# Altium footprint library Pcb_Connectors.PcbLib: 17 footprints (part 1 of 2)
Each footprint in its own frame and in the unit in brackets; x right, y up, seen from the top. Pads: shape width x height; smd on the part's side, far side on the other; paste and mask are expansions set on the pad; w line width, h text height; cw(c..) or ccw(c..) is an arc to the next point about the centre after c.
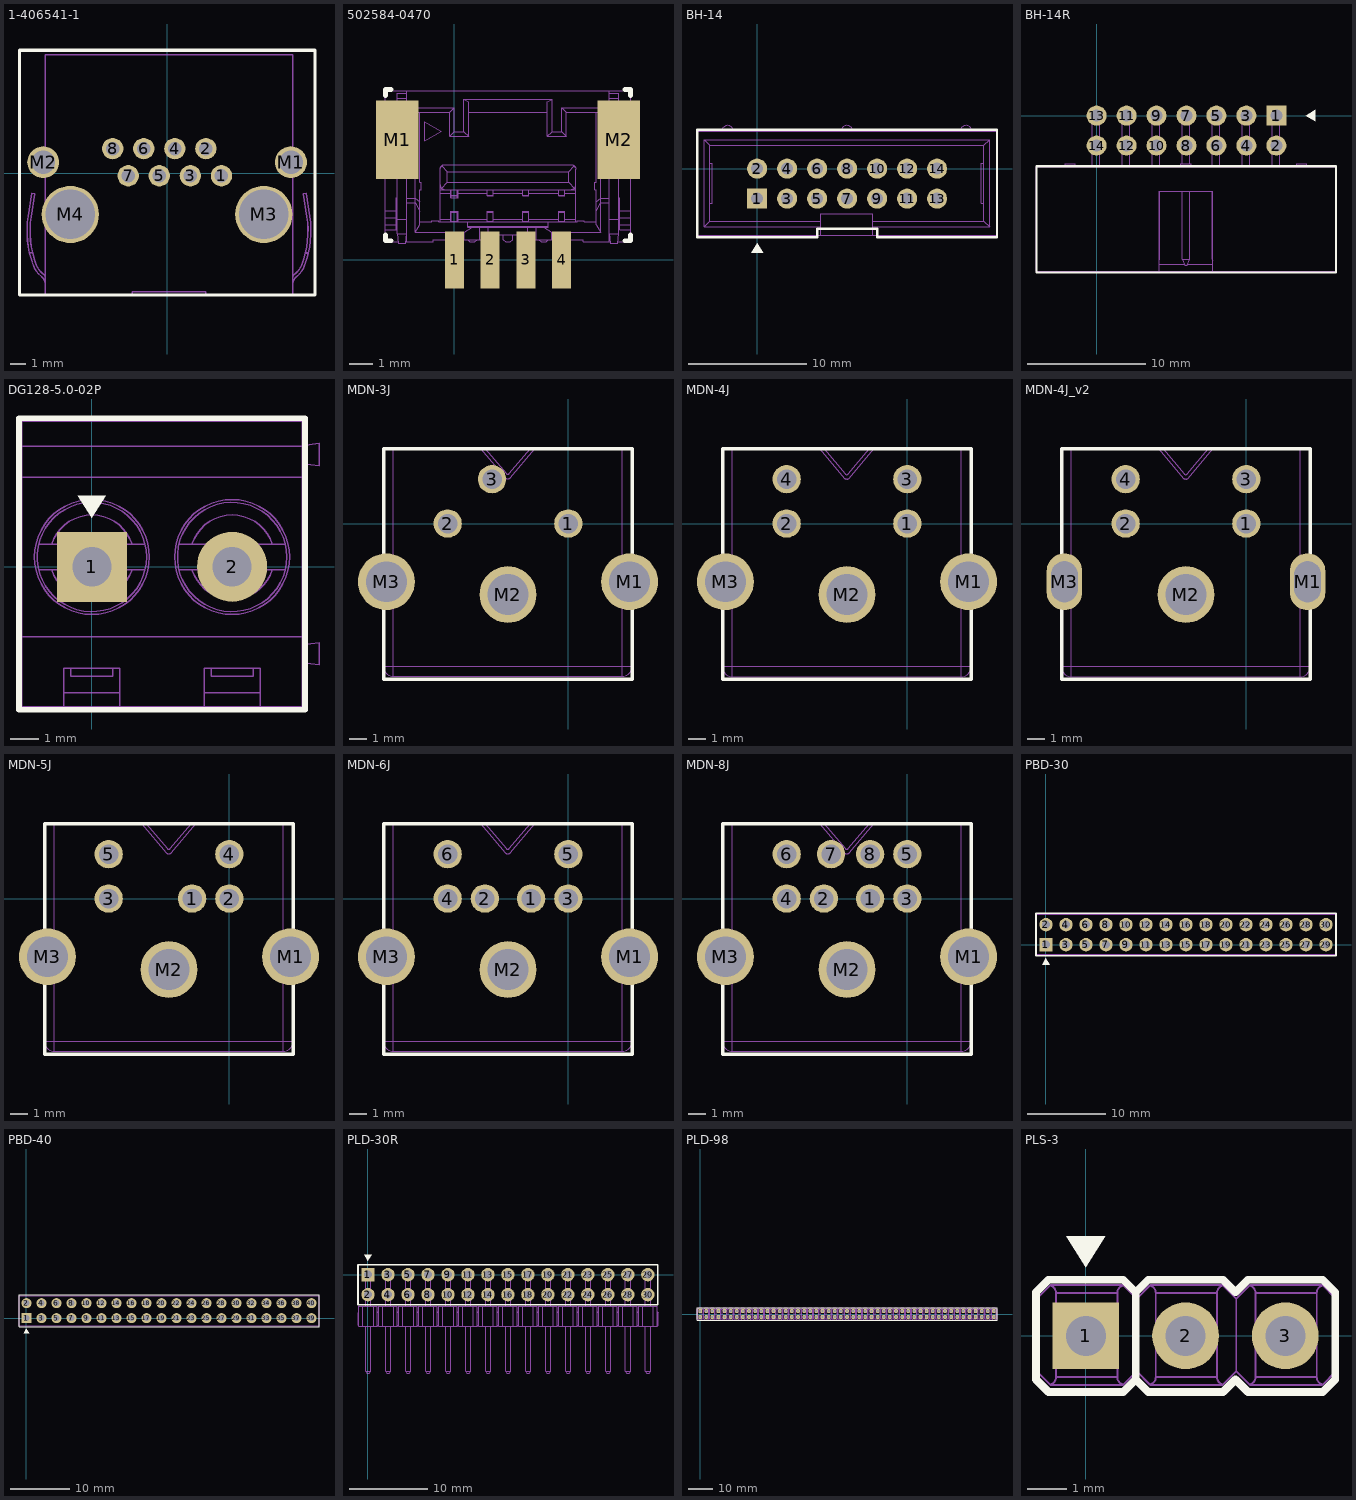
[diagram p0: the footprints below, top view; thin cyan lines are the x and y axes]

## 1-406541-1 [mm] "TE Connectivity Ethernet connector"
height 15.04
pads (12):
  round 1.4 hole 0.89: 1(3.56,-0.18) 2(2.54,1.6) 3(1.52,-0.18) 4(0.5,1.6) 5(-0.52,-0.18) 6(-1.54,1.6) 7(-2.56,-0.18) 8(-3.58,1.6)
  round 2.1 hole 1.57: M1(8.12,0.71) M2(-8.14,0.71)
  round 3.759 hole 3.251: M3(6.34,-2.72) M4(-6.36,-2.72)
Top Overlay:
  lines w0.2: -9.695,8.03 -9.695,-8 9.695,-8 9.695,8.06 -9.695,8.06
Top Assy (Mech13):
  lines w0.1: -8.011,-8 -2.296,-8 ; -8.011,-7.989 -8.011,7.759 8.245,7.759 8.245,-8 2.53,-8 ; -8.011,-7.354 ccw(c-8.773,-7.354) -8.296,-6.759 cw(c-7.327,-5.549) -8.772,-6.112 cw(c-2.855,-3.807) -9.044,-5.225 ; -8.011,-6.773 ccw(c-8.773,-7.354) -8.174,-6.606 cw(c-7.327,-5.549) -8.589,-6.041 cw(c-2.855,-3.807) -8.844,-5.225 ; 8.245,-7.354 cw(c9.007,-7.354) 8.53,-6.759 ccw(c7.561,-5.549) 9.006,-6.112 ccw(c3.089,-3.807) 9.273,-5.251 ; 8.245,-6.774 cw(c9.007,-7.354) 8.408,-6.607 ccw(c7.561,-5.549) 8.823,-6.041 ccw(c3.089,-3.807) 9.071,-5.251 ; -9.044,-5.225 cw(c-2.855,-3.807) -9.132,-2.845 -8.9,-1.334 -8.707,-1.364 -8.938,-2.875 ccw(c-2.855,-3.807) -8.844,-5.225 ; -9.044,-5.225 -8.844,-5.225 ; -2.296,-8 2.53,-8 ; -2.296,-8 -2.296,-7.793 2.53,-7.793 2.53,-8 ; 9.071,-5.251 ccw(c3.089,-3.807) 9.172,-2.875 8.941,-1.364 9.134,-1.334 9.366,-2.845 cw(c3.089,-3.807) 9.273,-5.251 ; 9.071,-5.251 9.273,-5.251
  text ".Designator" at -3.4,-3.3 h2
3D body "TEC_1-406541-1.stp": height 14.8, standoff -3.92, extent -9.33,-7.998 9.31,7.75

## 502584-0470 [mm]
pads (6):
  rect 0.8x2.4 smd: 1(0,0) 2(1.5,0) 3(3,0) 4(4.5,0)
  rect 1.8x3.3 smd: M1(-2.4,5.05) M2(6.9,5.05)
Top Overlay:
  lines w0.2: -2.9,1.05 -2.9,0.8 -2.65,0.8 ; -2.9,6.9 -2.9,7.15 -2.65,7.15 ; 7.15,0.8 7.4,0.8 7.4,1.05 ; 7.15,7.15 7.4,7.15 7.4,6.9
Top Assy (Mech13):
  drawing of 3816 lines, arcs and shapes, not listed
  text ".Designator" at -2.133,4.2 h1
3D body "5025840470.stp": height 7.33, standoff 0.03, extent -2.9,-0.3 7.4,7.1

## BH-14 [mm]
pads (14):
  rect 1.7x1.7 hole 1.02: 1(0,-2.54)
  round 1.7 hole 1.02: 2(0,0) 3(2.54,-2.54) 4(2.54,0) 5(5.08,-2.54) 6(5.08,0) 7(7.62,-2.54) 8(7.62,0) 9(10.16,-2.54) 10(10.16,0) 11(12.7,-2.54) 12(12.7,0) 13(15.24,-2.54) 14(15.24,0)
Top Overlay:
  region: 0,-6.318 -0.496,-7.112 0.496,-7.112
  lines w0.2: -5.08,-5.82 -5.08,3.28 20.32,3.28 20.32,-5.82 10.16,-5.82 10.16,-5.08 5.08,-5.08 5.08,-5.82 -5.08,-5.82
Top Assy (Mech13):
  drawing of 207 lines, arcs and shapes, not listed
  text ".Designator" at 0.933,-7.8 h2
3D body "BH-14.STEP": height 9.25, standoff -3.45, extent -5.095,-5.69 20.305,3.66

## BH-14R [mm]
pads (14):
  rect 1.7x1.7 hole 1.02: 1(15.24,0)
  round 1.7 hole 1.02: 2(15.24,-2.54) 3(12.7,0) 4(12.7,-2.54) 5(10.16,0) 6(10.16,-2.54) 7(7.62,0) 8(7.62,-2.54) 9(5.08,0) 10(5.08,-2.54) 11(2.54,0) 12(2.54,-2.54) 13(0,0) 14(0,-2.54)
Top Overlay:
  region: 17.748,0 18.542,-0.496 18.542,0.496
  lines w0.2: -5.1,-13.3 20.3,-13.3 20.3,-4.3 -5.1,-4.3 -5.1,-13.3
Top Assy (Mech13):
  lines w0.05: -2.675,-4.35 -2.675,-4.1 -1.825,-4.1 -1.825,-4.35 ; -0.36,-4.35 -0.36,-0.65 ; 0.28,-4.35 0.28,-0.65 ; 2.18,-4.35 2.18,-0.65 ; 2.82,-4.35 2.82,-0.65 ; 4.72,-4.35 4.72,-0.65 ; 5.33,-12.6 7.424,-12.6 ; 5.33,-12.265 5.36,-12.19 ; 5.33,-12.19 5.36,-12.19 ; 5.36,-6.4 5.36,-12.19 ; 5.36,-4.35 5.36,-0.65 ; 7.155,-4.35 7.155,-4.1 8.005,-4.1 8.005,-4.35 ; 7.26,-6.4 7.26,-12.19 ; 7.26,-4.1 7.26,-0.65 ; 7.736,-12.6 9.83,-12.6 ; 7.9,-6.4 7.9,-12.19 ; 7.9,-4.1 7.9,-0.65 ; 9.8,-6.4 9.8,-12.19 ; 9.8,-4.35 9.8,-0.65 ; 9.83,-12.265 9.8,-12.19 ; 9.83,-12.19 9.8,-12.19 ; 10.44,-4.35 10.44,-0.65 ; 12.34,-4.35 12.34,-0.65 ; 12.98,-4.35 12.98,-0.65 ; 14.88,-4.35 14.88,-0.65 ; 15.52,-4.35 15.52,-0.65 ; 16.985,-4.35 16.985,-4.1 17.835,-4.1 17.835,-4.35 ; -0.36,-0.65 0.28,-0.65 ; -0.36,-0.65 -0.36,0.35 0.28,0.35 0.28,-0.65 ; 2.18,-0.65 2.82,-0.65 ; 2.18,-0.65 2.18,0.35 2.82,0.35 2.82,-0.65 ; 4.72,-0.65 5.36,-0.65 ; 4.72,-0.65 4.72,0.35 5.36,0.35 5.36,-0.65 ; 5.33,-13.2 -5.14,-13.2 -5.14,-4.35 20.3,-4.35 20.3,-13.2 9.83,-13.2 ; 5.33,-13.2 5.33,-6.4 9.83,-6.4 9.83,-13.2 ; 5.33,-13.2 9.83,-13.2 ; 7.26,-12.19 7.46,-12.69 7.7,-12.69 7.9,-12.19 ; 7.26,-12.19 7.9,-12.19 ; 7.26,-0.65 7.9,-0.65 ; 7.26,-0.65 7.26,0.35 7.9,0.35 7.9,-0.65 ; 9.8,-0.65 10.44,-0.65 ; 9.8,-0.65 9.8,0.35 10.44,0.35 10.44,-0.65 ; 12.34,-0.65 12.98,-0.65 ; 12.34,-0.65 12.34,0.35 12.98,0.35 12.98,-0.65 ; 14.88,-0.65 15.52,-0.65 ; 14.88,-0.65 14.88,0.35 15.52,0.35 15.52,-0.65
  text ".Designator" at 12.133,-10.1 h2
3D body "BH-14R.stp": height 9.23, standoff -2.6, extent -5.145,-13.205 20.295,0.345

## DG128-5.0-02P [mm] "PCB terminal blocks, Screw connection with tension sleeve"
height 14
pads (2):
  rect 2.5x2.5 hole 1.4: 1(0,0)
  round 2.5 hole 1.4: 2(5,0)
Top Overlay:
  region: 0,1.746 -0.496,2.54 0.496,2.54
  lines w0.2: -2.6,-5.1 7.6,-5.1 7.6,5.3 -2.6,5.3 -2.6,-5.1
Top Assy (Mech13):
  circle w0.05: c5,0.35 r1.95
  circle w0.05: c0,0.35 r1.95
  circle w0.05: c5,0.35 r2.05
  circle w0.05: c0,0.35 r2.05
  lines w0.05: -2.5,-2.5 7.5,-2.5 ; -2.5,3.2 7.5,3.2 ; -2.5,4.3 7.5,4.3 ; -1.886,-0.1 -1.431,-0.1 ; -1.886,0.8 -1.431,0.8 ; -1,-5 -1,-3.625 1,-3.625 1,-5 ; -1,-4.5 1,-4.5 ; -0.75,-3.625 -0.75,-3.9 0.75,-3.9 0.75,-3.625 ; 1.892,0.8 1.431,0.8 ; 1.894,-0.1 1.431,-0.1 ; 3.114,-0.1 3.569,-0.1 ; 3.114,0.8 3.569,0.8 ; 4,-5 4,-3.625 6,-3.625 6,-5 ; 4,-4.5 6,-4.5 ; 4.25,-3.625 4.25,-3.9 5.75,-3.9 5.75,-3.625 ; 6.892,0.8 6.431,0.8 ; 6.894,-0.1 6.431,-0.1 ; 7.5,-3.425 8.1,-3.5 8.1,-2.7 7.5,-2.775 ; 7.5,3.675 8.1,3.6 8.1,4.4 7.5,4.325 ; -1.431,-0.1 ccw(c0,0.35) 1.431,-0.1 ; -1.431,-0.1 1.431,-0.1 ; -1.431,0.8 cw(c0,0.35) 1.431,0.8 ; -1.431,0.8 1.431,0.8 ; 3.569,-0.1 ccw(c5,0.35) 6.431,-0.1 ; 3.569,-0.1 6.431,-0.1 ; 3.569,0.8 cw(c5,0.35) 6.431,0.8 ; 3.569,0.8 6.431,0.8 ; -2.5,-5 -2.5,5.2 7.5,5.2 7.5,-5 -2.5,-5
  text ".Designator" at -2.798,5.6 h3
3D body "DG128-5.0-02.stp": height 14.1, standoff -3.5, extent -2.5,-5 8.1,5.2

## MDN-3J [mm]
pads (6):
  round 1.6 hole 1.1: 1(0,0) 2(-6.8,0) 3(-4.3,2.5)
  round 3.2 hole 2.3: M1(3.45,-3.28) M2(-3.4,-4) M3(-10.25,-3.28)
Top Overlay:
  lines w0.2: -10.4,-8.78 -10.4,4.22 3.6,4.22 3.6,-8.78 -10.4,-8.78
Top Assy (Mech13):
  lines w0.05: -10.426,-8.033 ccw(c-9.852,-8.033) -9.852,-8.607 ; -10.426,-8.033 -10.426,4.22 -9.852,4.22 ; -10.426,-8.033 -9.852,-8.033 ; -9.852,-8.607 -9.852,-8.033 ; -9.852,-8.607 3.026,-8.607 ; -9.852,-8.033 3.026,-8.033 ; -9.852,-8.033 -9.852,4.22 ; -9.852,4.22 -4.937,4.22 ; -4.937,4.22 -4.683,4.22 ; -4.937,4.22 -3.554,2.572 ccw(c-3.457,2.654) -3.413,2.535 ccw(c-3.369,2.654) -3.272,2.572 -1.889,4.22 ; -4.683,4.22 -2.143,4.22 ; -4.683,4.22 -3.51,2.822 ccw(c-3.413,2.904) -3.316,2.822 -2.143,4.22 ; -2.143,4.22 -1.889,4.22 ; -1.889,4.22 3.026,4.22 ; 3.026,-8.607 ccw(c3.026,-8.033) 3.6,-8.033 ; 3.026,-8.607 3.026,-8.033 ; 3.026,-8.033 3.6,-8.033 ; 3.026,-8.033 3.026,4.22 ; 3.026,4.22 3.6,4.22 3.6,-8.033
  text ".Designator" at -6.767,-7.6 h2
3D body "a-dio-fs03-shielded.stp": height 13, standoff -3.5, extent -10.4,-8.65 3.6,4.25

## MDN-4J [mm]
pads (7):
  round 1.6 hole 1.1: 1(0,0) 2(-6.8,0) 3(0,2.5) 4(-6.8,2.5)
  round 3.2 hole 2.3: M1(3.45,-3.28) M2(-3.4,-4) M3(-10.25,-3.28)
Top Overlay:
  lines w0.2: -10.4,-8.78 3.6,-8.78 3.6,4.22 -10.4,4.22 -10.4,-8.78
Top Assy (Mech13):
  lines w0.05: -10.426,-8.053 ccw(c-9.852,-8.053) -9.852,-8.627 ; -10.426,-8.053 -9.852,-8.053 ; -10.426,-8.053 -10.426,4.2 -9.852,4.2 ; -9.852,-8.627 3.026,-8.627 ; -9.852,-8.627 -9.852,-8.053 ; -9.852,-8.053 -9.852,4.2 ; -9.852,-8.053 3.026,-8.053 ; -9.852,4.2 -4.937,4.2 ; -4.937,4.2 -3.554,2.552 ccw(c-3.457,2.634) -3.413,2.515 ccw(c-3.369,2.634) -3.272,2.552 -1.889,4.2 ; -4.937,4.2 -4.683,4.2 ; -4.683,4.2 -3.51,2.802 ccw(c-3.413,2.884) -3.316,2.802 -2.143,4.2 ; -4.683,4.2 -2.143,4.2 ; -2.143,4.2 -1.889,4.2 ; -1.889,4.2 3.026,4.2 ; 3.026,-8.627 ccw(c3.026,-8.053) 3.6,-8.053 ; 3.026,-8.627 3.026,-8.053 ; 3.026,-8.053 3.026,4.2 ; 3.026,-8.053 3.6,-8.053 ; 3.026,4.2 3.6,4.2 3.6,-8.053
  text ".Designator" at -6.767,-7.6 h2
3D body "c-5749181-1-a-3d.stp": height 13.02, standoff -3.54, extent -10.413,-8.6 3.613,4.227

## MDN-4J_v2 [mm]
pads (7):
  round 1.6 hole 1.1: 1(0,0) 2(-6.8,0) 3(0,2.5) 4(-6.8,2.5)
  oval 2x3.2 hole 2.3 slot 1.5 at 0 deg: M1(3.45,-3.28) M3(-10.25,-3.28)
  round 3.2 hole 2.3: M2(-3.4,-4)
Top Overlay:
  lines w0.2: -10.4,-8.78 3.6,-8.78 3.6,4.22 -10.4,4.22 -10.4,-8.78
Top Assy (Mech13):
  lines w0.05: -10.426,-8.053 ccw(c-9.852,-8.053) -9.852,-8.627 ; -10.426,-8.053 -9.852,-8.053 ; -10.426,-8.053 -10.426,4.2 -9.852,4.2 ; -9.852,-8.627 3.026,-8.627 ; -9.852,-8.627 -9.852,-8.053 ; -9.852,-8.053 -9.852,4.2 ; -9.852,-8.053 3.026,-8.053 ; -9.852,4.2 -4.937,4.2 ; -4.937,4.2 -3.554,2.552 ccw(c-3.457,2.634) -3.413,2.515 ccw(c-3.369,2.634) -3.272,2.552 -1.889,4.2 ; -4.937,4.2 -4.683,4.2 ; -4.683,4.2 -3.51,2.802 ccw(c-3.413,2.884) -3.316,2.802 -2.143,4.2 ; -4.683,4.2 -2.143,4.2 ; -2.143,4.2 -1.889,4.2 ; -1.889,4.2 3.026,4.2 ; 3.026,-8.627 ccw(c3.026,-8.053) 3.6,-8.053 ; 3.026,-8.627 3.026,-8.053 ; 3.026,-8.053 3.026,4.2 ; 3.026,-8.053 3.6,-8.053 ; 3.026,4.2 3.6,4.2 3.6,-8.053
  text ".Designator" at -6.867,-7.6 h2
3D body "c-5749181-1-a-3d.stp": height 13.02, standoff -3.54, extent -10.413,-8.6 3.613,4.227

## MDN-5J [mm]
pads (8):
  round 1.6 hole 1.1: 1(-2.1,0) 2(0,0) 3(-6.8,0) 4(0,2.5) 5(-6.8,2.5)
  round 3.2 hole 2.3: M1(3.45,-3.28) M2(-3.4,-4) M3(-10.25,-3.28)
Top Overlay:
  lines w0.2: -10.4,-8.78 -10.4,4.22 3.6,4.22 3.6,-8.78 -10.4,-8.78
Top Assy (Mech13):
  lines w0.05: -10.426,-8.033 ccw(c-9.852,-8.033) -9.852,-8.607 ; -10.426,-8.033 -10.426,4.22 -9.852,4.22 ; -10.426,-8.033 -9.852,-8.033 ; -9.852,-8.607 -9.852,-8.033 ; -9.852,-8.607 3.026,-8.607 ; -9.852,-8.033 3.026,-8.033 ; -9.852,-8.033 -9.852,4.22 ; -9.852,4.22 -4.937,4.22 ; -4.937,4.22 -4.683,4.22 ; -4.937,4.22 -3.554,2.572 ccw(c-3.457,2.654) -3.413,2.535 ccw(c-3.369,2.654) -3.272,2.572 -1.889,4.22 ; -4.683,4.22 -2.143,4.22 ; -4.683,4.22 -3.51,2.822 ccw(c-3.413,2.904) -3.316,2.822 -2.143,4.22 ; -2.143,4.22 -1.889,4.22 ; -1.889,4.22 3.026,4.22 ; 3.026,-8.607 ccw(c3.026,-8.033) 3.6,-8.033 ; 3.026,-8.607 3.026,-8.033 ; 3.026,-8.033 3.6,-8.033 ; 3.026,-8.033 3.026,4.22 ; 3.026,4.22 3.6,4.22 3.6,-8.033
  text ".Designator" at -6.867,-7.6 h2
3D body "a-dio-fs05.stp": height 12.85, standoff -3.65, extent -10.4,-8.8 3.6,4.2

## MDN-6J [mm]
pads (9):
  round 1.6 hole 1.1: 1(-2.1,0) 2(-4.7,0) 3(0,0) 4(-6.8,0) 5(0,2.5) 6(-6.8,2.5)
  round 3.2 hole 2.3: M1(3.45,-3.28) M2(-3.4,-4) M3(-10.25,-3.28)
Top Overlay:
  lines w0.2: -10.4,-8.78 -10.4,4.22 3.6,4.22 3.6,-8.78 -10.4,-8.78
Top Assy (Mech13):
  lines w0.05: -10.426,-8.033 ccw(c-9.852,-8.033) -9.852,-8.607 ; -10.426,-8.033 -9.852,-8.033 ; -10.426,-8.033 -10.426,4.22 -9.852,4.22 ; -9.852,-8.607 3.026,-8.607 ; -9.852,-8.607 -9.852,-8.033 ; -9.852,-8.033 -9.852,4.22 ; -9.852,-8.033 3.026,-8.033 ; -9.852,4.22 -4.937,4.22 ; -4.937,4.22 -3.554,2.572 ccw(c-3.457,2.654) -3.413,2.535 ccw(c-3.369,2.654) -3.272,2.572 -1.889,4.22 ; -4.937,4.22 -4.683,4.22 ; -4.683,4.22 -3.51,2.822 ccw(c-3.413,2.904) -3.316,2.822 -2.143,4.22 ; -4.683,4.22 -2.143,4.22 ; -2.143,4.22 -1.889,4.22 ; -1.889,4.22 3.026,4.22 ; 3.026,-8.607 ccw(c3.026,-8.033) 3.6,-8.033 ; 3.026,-8.607 3.026,-8.033 ; 3.026,-8.033 3.026,4.22 ; 3.026,-8.033 3.6,-8.033 ; 3.026,4.22 3.6,4.22 3.6,-8.033
  text ".Designator" at -6.867,-7.6 h2
3D body "a-dio-fs06_green.stp": height 13, standoff -3.5, extent -10.4,-8.8 3.6,4.1

## MDN-8J [mm]
pads (11):
  round 1.6 hole 1.1: 1(-2.1,0) 2(-4.7,0) 3(0,0) 4(-6.8,0) 5(0,2.5) 6(-6.8,2.5) 7(-4.3,2.5) 8(-2.1,2.5)
  round 3.2 hole 2.3: M1(3.45,-3.28) M2(-3.4,-4) M3(-10.25,-3.28)
Top Overlay:
  lines w0.2: -10.4,-8.78 -10.4,4.22 3.6,4.22 3.6,-8.78 -10.4,-8.78
Top Assy (Mech13):
  lines w0.05: -10.426,-8.033 ccw(c-9.852,-8.033) -9.852,-8.607 ; -10.426,-8.033 -9.852,-8.033 ; -10.426,-8.033 -10.426,4.22 -9.852,4.22 ; -9.852,-8.607 3.026,-8.607 ; -9.852,-8.607 -9.852,-8.033 ; -9.852,-8.033 -9.852,4.22 ; -9.852,-8.033 3.026,-8.033 ; -9.852,4.22 -4.937,4.22 ; -4.937,4.22 -3.554,2.572 ccw(c-3.457,2.654) -3.413,2.535 ccw(c-3.369,2.654) -3.272,2.572 -1.889,4.22 ; -4.937,4.22 -4.683,4.22 ; -4.683,4.22 -3.51,2.822 ccw(c-3.413,2.904) -3.316,2.822 -2.143,4.22 ; -4.683,4.22 -2.143,4.22 ; -2.143,4.22 -1.889,4.22 ; -1.889,4.22 3.026,4.22 ; 3.026,-8.607 ccw(c3.026,-8.033) 3.6,-8.033 ; 3.026,-8.607 3.026,-8.033 ; 3.026,-8.033 3.026,4.22 ; 3.026,-8.033 3.6,-8.033 ; 3.026,4.22 3.6,4.22 3.6,-8.033
  text ".Designator" at -6.767,-7.6 h2
3D body "a-dio-fs08.stp": height 12.85, standoff -3.65, extent -10.4,-8.8 3.6,4.2

## PBD-30 [mm]
pads (30):
  rect 1.7x1.7 hole 1.02: 1(0,0)
  round 1.7 hole 1.02: 2(0,2.54) 3(2.54,0) 4(2.54,2.54) 5(5.08,0) 6(5.08,2.54) 7(7.62,0) 8(7.62,2.54) 9(10.16,0) 10(10.16,2.54) 11(12.7,0) 12(12.7,2.54) 13(15.24,0) 14(15.24,2.54) 15(17.78,0) 16(17.78,2.54) 17(20.32,0) 18(20.32,2.54) 19(22.86,0) 20(22.86,2.54) 21(25.4,0) 22(25.4,2.54) 23(27.94,0) 24(27.94,2.54) 25(30.48,0) 26(30.48,2.54) 27(33.02,0) 28(33.02,2.54) 29(35.56,0) 30(35.56,2.54)
Top Overlay:
  region: 0,-1.746 0.496,-2.54 -0.496,-2.54
  lines w0.2: -1.27,-1.429 -1.27,3.969 36.83,3.969 36.83,-1.429 -1.27,-1.429
Top Assy (Mech13):
  drawing of 364 lines, arcs and shapes, not listed
  text ".Designator" at 1.133,4.14 h2

## PBD-40 [mm]
pads (40):
  rect 1.7x1.7 hole 1.02: 1(0,0)
  round 1.7 hole 1.02: 2(0,2.54) 3(2.54,0) 4(2.54,2.54) 5(5.08,0) 6(5.08,2.54) 7(7.62,0) 8(7.62,2.54) 9(10.16,0) 10(10.16,2.54) 11(12.7,0) 12(12.7,2.54) 13(15.24,0) 14(15.24,2.54) 15(17.78,0) 16(17.78,2.54) 17(20.32,0) 18(20.32,2.54) 19(22.86,0) 20(22.86,2.54) 21(25.4,0) 22(25.4,2.54) 23(27.94,0) 24(27.94,2.54) 25(30.48,0) 26(30.48,2.54) 27(33.02,0) 28(33.02,2.54) 29(35.56,0) 30(35.56,2.54) 31(38.1,0) 32(38.1,2.54) 33(40.64,0) 34(40.64,2.54) 35(43.18,0) 36(43.18,2.54) 37(45.72,0) 38(45.72,2.54) 39(48.26,0) 40(48.26,2.54)
Top Overlay:
  region: 0,-1.746 0.496,-2.54 -0.496,-2.54
  lines w0.2: -1.27,-1.429 -1.27,3.969 49.53,3.969 49.53,-1.429 -1.27,-1.429
Top Assy (Mech13):
  drawing of 484 lines, arcs and shapes, not listed
  text ".Designator" at 1.133,4.14 h2

## PLD-30R [mm]
pads (30):
  rect 1.7x1.7 hole 1.02: 1(0,0)
  round 1.7 hole 1.02: 2(0,-2.54) 3(2.54,0) 4(2.54,-2.54) 5(5.08,0) 6(5.08,-2.54) 7(7.62,0) 8(7.62,-2.54) 9(10.16,0) 10(10.16,-2.54) 11(12.7,0) 12(12.7,-2.54) 13(15.24,0) 14(15.24,-2.54) 15(17.78,0) 16(17.78,-2.54) 17(20.32,0) 18(20.32,-2.54) 19(22.86,0) 20(22.86,-2.54) 21(25.4,0) 22(25.4,-2.54) 23(27.94,0) 24(27.94,-2.54) 25(30.48,0) 26(30.48,-2.54) 27(33.02,0) 28(33.02,-2.54) 29(35.56,0) 30(35.56,-2.54)
Top Overlay:
  region: 0,1.746 -0.496,2.54 0.496,2.54
  lines w0.2: -1.27,-3.81 -1.27,1.27 36.83,1.27 36.83,-3.81 -1.27,-3.81
Top Assy (Mech13):
  drawing of 422 lines, arcs and shapes, not listed
  text ".Designator" at 1.133,1.6 h2
3D body "pld-30r.x_t": height 5, standoff -3, extent -1.27,-12.72 36.83,0.32

## PLD-98 [mm]
pads (98):
  rect 1.5x1.9 hole 0.95: 1(0,1.27)
  oval 1.5x1.9 hole 0.95: 2(0,-1.27) 3(2.54,1.27) 4(2.54,-1.27) 5(5.08,1.27) 6(5.08,-1.27) 7(7.62,1.27) 8(7.62,-1.27) 9(10.16,1.27) 10(10.16,-1.27) 11(12.7,1.27) 12(12.7,-1.27) 13(15.24,1.27) 14(15.24,-1.27) 15(17.78,1.27) 16(17.78,-1.27) 17(20.32,1.27) 18(20.32,-1.27) 19(22.86,1.27) 20(22.86,-1.27) 21(25.4,1.27) 22(25.4,-1.27) 23(27.94,1.27) 24(27.94,-1.27) 25(30.48,1.27) 26(30.48,-1.27) 27(33.02,1.27) 28(33.02,-1.27) 29(35.56,1.27) 30(35.56,-1.27) 31(38.1,1.27) 32(38.1,-1.27) 33(40.64,1.27) 34(40.64,-1.27) 35(43.18,1.27) 36(43.18,-1.27) 37(45.72,1.27) 38(45.72,-1.27) 39(48.26,1.27) 40(48.26,-1.27) 41(50.8,1.27) 42(50.8,-1.27) 43(53.34,1.27) 44(53.34,-1.27) 45(55.88,1.27) 46(55.88,-1.27) 47(58.42,1.27) 48(58.42,-1.27) 49(60.96,1.27) 50(60.96,-1.27) 51(63.5,1.27) 52(63.5,-1.27) 53(66.04,1.27) 54(66.04,-1.27) 55(68.58,1.27) 56(68.58,-1.27) 57(71.12,1.27) 58(71.12,-1.27) 59(73.66,1.27) 60(73.66,-1.27) 61(76.2,1.27) 62(76.2,-1.27) 63(78.74,1.27) 64(78.74,-1.27) 65(81.28,1.27) 66(81.28,-1.27) 67(83.82,1.27) 68(83.82,-1.27) 69(86.36,1.27) 70(86.36,-1.27) 71(88.9,1.27) 72(88.9,-1.27) 73(91.44,1.27) 74(91.44,-1.27) 75(93.98,1.27) 76(93.98,-1.27) 77(96.52,1.27) 78(96.52,-1.27) 79(99.06,1.27) 80(99.06,-1.27) 81(101.6,1.27) 82(101.6,-1.27) 83(104.14,1.27) 84(104.14,-1.27) 85(106.68,1.27) 86(106.68,-1.27) 87(109.22,1.27) 88(109.22,-1.27) 89(111.76,1.27) 90(111.76,-1.27) 91(114.3,1.27) 92(114.3,-1.27) 93(116.84,1.27) 94(116.84,-1.27) 95(119.38,1.27) 96(119.38,-1.27) 97(121.92,1.27) 98(121.92,-1.27)
Top Overlay:
  lines w0.2: -1.27,-2.54 -1.27,2.54 123.19,2.54 123.19,-2.54 -1.27,-2.54
Top Assy (Mech13):
  drawing of 1684 lines, arcs and shapes, not listed
  text ".Designator" at 1.133,2.87 h2
3D body "User Library-PLD-14.step": height 8.4, standoff -3, extent 105.41,-2.5 123.19,2.5
3D body "User Library-PLD-14.step": height 8.4, standoff -3, extent 87.63,-2.5 105.41,2.5
3D body "User Library-PLD-14.step": height 8.4, standoff -3, extent 69.85,-2.5 87.63,2.5
3D body "User Library-PLD-14.step": height 8.4, standoff -3, extent 52.07,-2.5 69.85,2.5
3D body "User Library-PLD-14.step": height 8.4, standoff -3, extent 34.29,-2.5 52.07,2.5
3D body "User Library-PLD-14.step": height 8.4, standoff -3, extent 16.51,-2.5 34.29,2.5
3D body "User Library-PLD-14.step": height 8.4, standoff -3, extent -1.27,-2.5 16.51,2.5

## PLS-3 [mm]
pads (3):
  rect 1.7x1.7 hole 1.02: 1(0,0)
  round 1.7 hole 1.02: 2(2.54,0) 3(5.08,0)
Top Overlay:
  region: 0,1.746 0.496,2.54 -0.496,2.54
  lines w0.2: 1.27,-1.111 1.27,1.111 ; 1.27,-1.111 1.588,-1.429 3.493,-1.429 3.81,-1.111 4.128,-1.429 6.033,-1.429 6.35,-1.111 6.35,1.111 6.032,1.429 4.127,1.429 3.81,1.111 3.492,1.429 1.587,1.429 1.27,1.111 ; 1.27,-1.111 0.953,-1.429 -0.952,-1.429 -1.27,-1.111 -1.27,1.111 -0.953,1.429 0.953,1.429 1.27,1.111
Top Assy (Mech13):
  lines w0.05: -0.907,-1.243 ccw(c-0.96,-1.05) -0.76,-1.05 ; -0.907,-1.243 -0.9,-1.25 0.94,-1.25 0.947,-1.243 ; -0.907,-1.243 -1.25,-0.9 -1.25,0.94 -0.907,1.283 ; -0.907,1.283 cw(c-0.96,1.09) -0.76,1.09 ; -0.907,1.283 -0.9,1.29 0.94,1.29 0.947,1.283 ; -0.76,-1.05 0.8,-1.05 ; -0.76,-1.05 -0.76,1.09 ; -0.76,1.09 0.8,1.09 ; -0.335,-0.335 -0.335,0.335 ; -0.335,-0.335 -0.135,-0.135 ; -0.335,-0.335 0.335,-0.335 ; -0.335,0.335 -0.135,0.135 ; -0.335,0.335 0.335,0.335 ; -0.135,-0.135 -0.135,0.135 ; -0.135,-0.135 0.135,-0.135 ; -0.135,0.135 0.135,0.135 ; 0.135,-0.135 0.335,-0.335 ; 0.135,-0.135 0.135,0.135 ; 0.135,0.135 0.335,0.335 ; 0.335,-0.335 0.335,0.335 ; 0.8,-1.05 ccw(c1,-1.05) 0.947,-1.243 ; 0.8,-1.05 0.8,1.09 ; 0.8,1.09 cw(c1,1.09) 0.947,1.283 ; 0.947,-1.243 1.29,-0.9 ; 0.947,1.283 1.29,0.94 ; 1.29,-0.9 1.633,-1.243 ; 1.29,-0.9 1.29,0.94 ; 1.29,0.94 1.633,1.283 ; 1.633,-1.243 ccw(c1.58,-1.05) 1.78,-1.05 ; 1.633,-1.243 1.64,-1.25 3.48,-1.25 3.487,-1.243 ; 1.633,1.283 cw(c1.58,1.09) 1.78,1.09 ; 1.633,1.283 1.64,1.29 3.48,1.29 3.487,1.283 ; 1.78,-1.05 3.34,-1.05 ; 1.78,-1.05 1.78,1.09 ; 1.78,1.09 3.34,1.09 ; 2.205,-0.335 2.875,-0.335 ; 2.205,-0.335 2.405,-0.135 ; 2.205,-0.335 2.205,0.335 ; 2.205,0.335 2.875,0.335 ; 2.205,0.335 2.405,0.135 ; 2.405,-0.135 2.675,-0.135 ; 2.405,-0.135 2.405,0.135 ; 2.405,0.135 2.675,0.135 ; 2.675,-0.135 2.875,-0.335 ; 2.675,-0.135 2.675,0.135 ; 2.675,0.135 2.875,0.335 ; 2.875,-0.335 2.875,0.335 ; 3.34,-1.05 ccw(c3.54,-1.05) 3.487,-1.243 ; 3.34,-1.05 3.34,1.09 ; 3.34,1.09 cw(c3.54,1.09) 3.487,1.283 ; 3.487,-1.243 3.83,-0.9 ; 3.487,1.283 3.83,0.94 ; 3.83,-0.9 4.173,-1.243 ; 3.83,-0.9 3.83,0.94 ; 3.83,0.94 4.173,1.283 ; 4.173,-1.243 ccw(c4.12,-1.05) 4.32,-1.05 ; 4.173,-1.243 4.18,-1.25 6.02,-1.25 6.027,-1.243 ; 4.173,1.283 cw(c4.12,1.09) 4.32,1.09 ; 4.173,1.283 4.18,1.29 6.02,1.29 6.027,1.283 ; 4.32,-1.05 5.88,-1.05 ; 4.32,-1.05 4.32,1.09 ; 4.32,1.09 5.88,1.09 ; 4.745,-0.335 5.415,-0.335 ; 4.745,-0.335 4.945,-0.135 ; 4.745,-0.335 4.745,0.335 ; 4.745,0.335 4.945,0.135 ; 4.745,0.335 5.415,0.335 ; 4.945,-0.135 5.215,-0.135 ; 4.945,-0.135 4.945,0.135 ; 4.945,0.135 5.215,0.135 ; 5.215,-0.135 5.415,-0.335 ; 5.215,-0.135 5.215,0.135 ; 5.215,0.135 5.415,0.335 ; 5.415,-0.335 5.415,0.335 ; 5.88,-1.05 ccw(c6.08,-1.05) 6.027,-1.243 ; 5.88,-1.05 5.88,1.09 ; 5.88,1.09 cw(c6.08,1.09) 6.027,1.283 ; 6.027,-1.243 6.37,-0.9 6.37,0.94 6.027,1.283
  text ".Designator" at 0.033,1.6 h1.5
3D body "User Library-1x3 TH Pitch 2_54mm.STEP": height 9.2, standoff -3.5, extent -1.25,-1.25 6.37,1.29